# Altium schematic symbol library CR2032_BAT.SchLib: 1 symbol
Pins are listed as number, name and electrical type; pins without a type are passive.

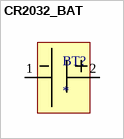
[diagram p0: symbol CR2032_BAT]

## CR2032_BAT
designator BT?
footprint CR2032_BAT
pins: 1 -, 2 +